# Altium integrated library LM2674M-5.0.IntLib: 1 symbol
Pins are listed as number, name and electrical type; pins without a type are passive.

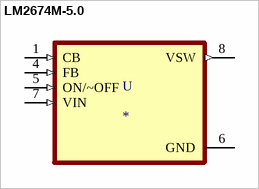
[diagram p0: symbol LM2674M-5.0]

## LM2674M-5.0
designator U
SIMPLE SWITCHER&reg; 40V, 500mA Low Component Count Step-Down Regulator 8-SOIC -40 to 125; MP: LM2674M-5.0; MF: Texas Instruments; Availability: Warning; Value: *; Package: SOIC-8 Texas Instruments; DigiKey-Purchase-URL: https://snapeda.com/shop?store=DigiKey&id=27603; Price: None; SnapEDA_Link: https://www.snapeda.com/parts/LM2674M-5.0/Texas%20Instruments/view-part/27603/?ref=snap
footprint SOIC127P599X175-8N
pins: 1 CB (in), 4 FB (in), 5 ON/~OFF (in), 6 GND (power), 7 VIN (in), 8 VSW (out)